# EAGLE library part TSC2007 (library ICs)
TOUCH SCREEN CONTROLLER, 4 WIRE RESISTIVE WITH AUX
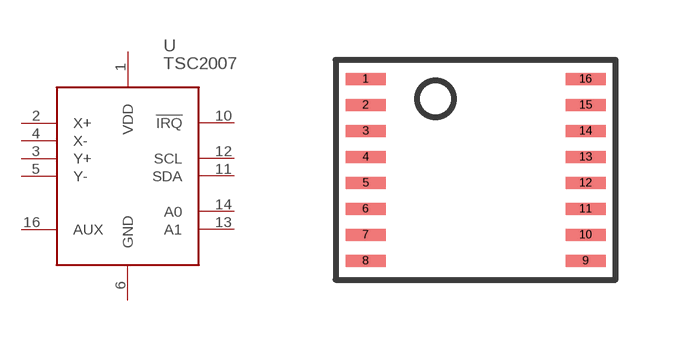
[diagram p108: symbol with the pads of SSOP16-4MM; footprint SSOP16-4MM]

Designator prefix U

## TSC2007IPW (FARNELL: 1703440; PRICE_PER: 3.63; VALUE: TSC2007)  [SSOP16-4MM]
1  VDD
2  X+
3  Y+
4  X-
5  Y-
6  GND
10  !IRQ
11  SDA
12  SCL
13  A1
14  A0
16  AUX

## Footprint SSOP16-4MM (pad centres in mm)
smd 1 x 0.3: 1 -2.75,2.275; 2 -2.75,1.625; 3 -2.75,0.975; 4 -2.75,0.325; 5 -2.75,-0.325; 6 -2.75,-0.975; 7 -2.75,-1.625; 8 -2.75,-2.275; 9 2.75,-2.275; 10 2.75,-1.625; 11 2.75,-0.975; 12 2.75,-0.325; 13 2.75,0.325; 14 2.75,0.975; 15 2.75,1.625; 16 2.75,2.275